# Altium footprint library EPU.PcbLib: 8 footprints
Each footprint in its own frame and in the unit in brackets; x right, y up, seen from the top. Pads: shape width x height; smd on the part's side, far side on the other; paste and mask are expansions set on the pad; w line width, h text height; cw(c..) or ccw(c..) is an arc to the next point about the centre after c.
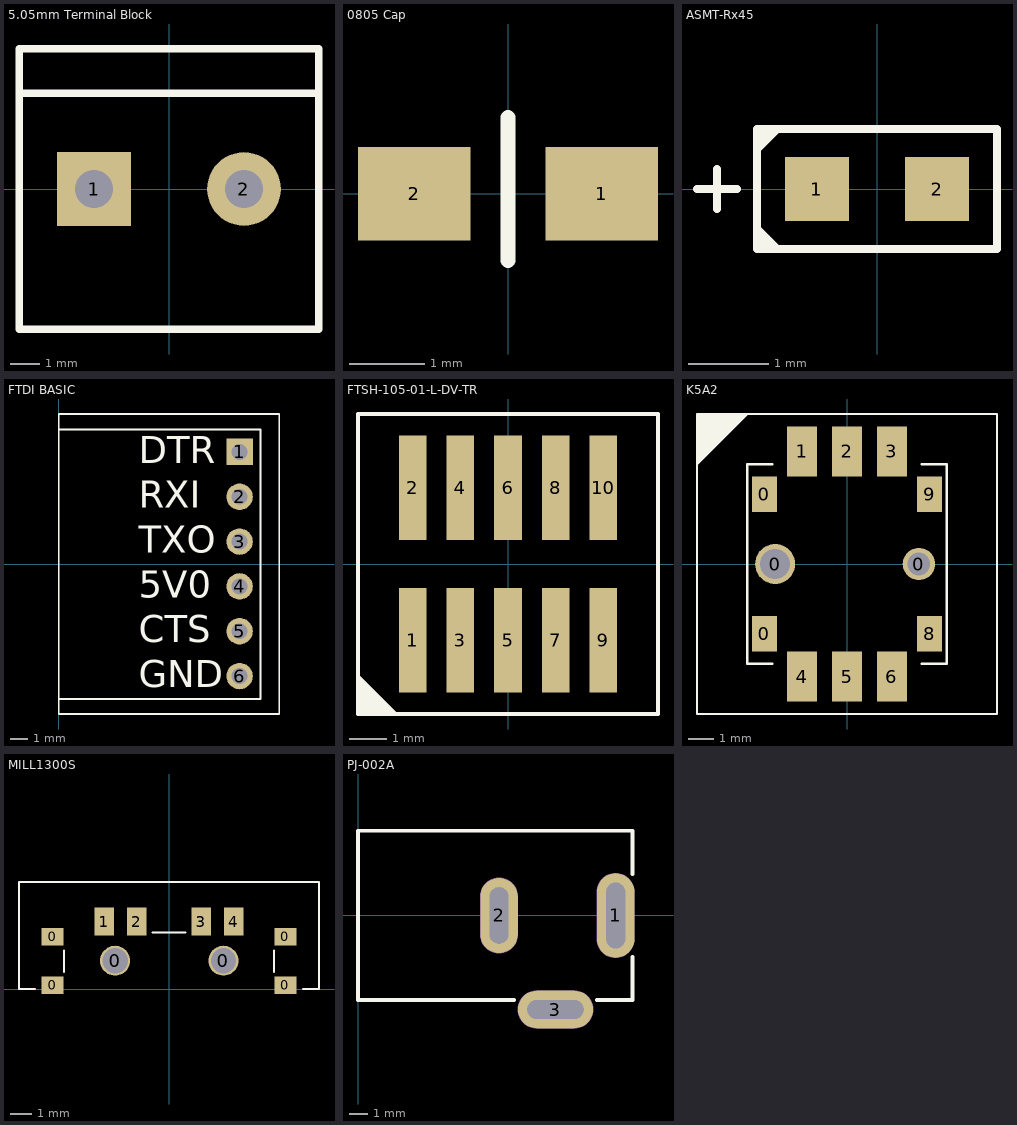
[diagram p0: the footprints below, top view; thin cyan lines are the x and y axes]

## 5.05mm Terminal Block [mm]
pads (2):
  rect 2.5x2.5 hole 1.3: 1(-2.54,0)
  round 2.5 hole 1.3: 2(2.54,0)
Top Overlay:
  lines w0.254: -5.08,3.25 5.08,3.25 ; -5.08,-4.75 -5.08,0 -5.08,4.75 5.08,4.75 5.08,0 5.08,-4.75 -5.08,-4.75

## 0805 Cap [mm] "0805 Capacitor"
pads (2):
  rect 1.5x1.25 smd: 1(1.25,0) 2(-1.25,0)
Top Overlay:
  lines w0.2: 0,-0.889 0,1.016
3D body: height 0.9, standoff 0, extent -1,-0.625 1.1,0.625

## ASMT-Rx45 [mm]
pads (2):
  rect 0.8x0.8 smd: 1(-0.75,0) 2(0.75,0)
Top Overlay:
  region: -1.25,0.75 -1.5,0.75 -1.5,0.5
  region: -1.5,-0.5 -1.25,-0.75 -1.5,-0.75
  lines w0.1: -2.25,0 -1.75,0 ; -2,-0.25 -2,0.25 ; -1.5,-0.5 -1.25,-0.75 ; -1.5,0.5 -1.25,0.75 ; -1.5,-0.75 1.5,-0.75 1.5,0.75 -1.5,0.75 -1.5,-0.75
3D body: height 0.1, standoff 0, extent -0.8,-0.4 0.8,0.4
3D body: height 0.45, standoff 0.1, extent -0.55,-0.4 0.55,0.4

## FTDI BASIC [mm]
pads (6):
  rect 1.5x1.5 hole 0.9: 1(10.25,6.35)
  round 1.5 hole 0.9: 2(10.25,3.81) 3(10.25,1.27) 4(10.25,-1.27) 5(10.25,-3.81) 6(10.25,-6.35)
Top Overlay:
  lines w0.1: 11.43,-7.65 0,-7.65 ; 11.43,-7.62 11.43,7.62 0,7.62 ; 0,-7.65 0,-8.5 12.5,-8.5 12.5,8.5 0,8.5 0,7.62 ; 0,-7.65 0,7.62
  text "TXO" at 4.535,0.635 h1.52
  text "RXI" at 4.535,3.175 h1.52
  text "DTR" at 4.535,5.715 h1.52
  text "GND" at 4.535,-6.985 h1.52
  text "CTS" at 4.535,-4.445 h1.52
  text "5V0" at 4.535,-1.905 h1.52
3D body: height 2.51, standoff -3.02, extent -0.024,-7.62 10.555,7.62

## FTSH-105-01-L-DV-TR [mil] "http://www.samtec.com/ftppub/cpdf/FTSHMKT1.PDF"
pads (10):
  rect 29x110 smd: 1(-100,-80) 2(-100,80) 3(-50,-80) 4(-50,80) 5(0,-80) 6(0,80) 7(50,-80) 8(50,80) 9(100,-80) 10(100,80)
Top Overlay:
  region: -157.48,-118.11 -118.11,-157.48 -157.48,-157.48
  lines w3.94: -157.48,-118.11 -118.11,-157.48 ; -157.48,-157.48 157.48,-157.48 157.48,157.48 -157.48,157.48 -157.48,-157.48
3D body: height 234.5, standoff -0.5, extent -125,-115 125,115

## K5A2 [mm]
pads (12):
  rect 1x1.42 smd: 0(-3.3,-2.8) 0(-3.3,2.8) 8(3.3,-2.8) 9(3.3,2.8)
  round 1.6 hole 1.2: 0(-2.875,0)
  round 1.3 hole 0.9: 0(2.875,0)
  rect 1.2x2 smd: 1(-1.8,4.5) 2(0,4.5) 3(1.8,4.5) 4(-1.8,-4.5) 5(0,-4.5) 6(1.8,-4.5)
Top Overlay:
  region: -4,6 -6,6 -6,4
  lines w0.1: -6,4 -4,6 ; -3,-4 -4,-4 -4,4 -3,4 ; 3,-4 4,-4 4,4 3,4 ; -6,-6 -6,6 6,6 6,-6 -6,-6
3D body: height 4.55, standoff 0, extent -3.175,-3.194 3.2,3.194
3D body: height 3.55, standoff 0, extent -4,-4 4,4
3D body: height 3.2, standoff 0, extent -4.125,-3 4.125,3

## MILL1300S [mil]
pads (10):
  rect 40x32 smd: 0(-214,7) 0(-214,96) 0(214,7) 0(214,96)
  round 55.12 hole 46.46 paste+0 mask+0: 0(-99,52) 0(100,52)
  rect 36x52 smd: 1(-119,124) 2(-59,124) 3(59,124) 4(119,124)
Top Overlay:
  lines w3.94: -246.06,0 -275.59,0 -275.59,196.85 275.59,196.85 275.59,0 246.06,0 ; -193,31.5 -193,70.87 ; -30,104 30,104 ; 193,31.5 193,70.87
3D body: height 55.91, standoff -20.08, extent -212.99,-60.24 212.99,139.37

## PJ-002A [mm] "DC Power Jack, 2.5mm, KLD Series, PCB Mount"
pads (3):
  oval 2x4.5 hole 1 slot 3.5 at 90 deg: 1(13.7,0)
  oval 2x4 hole 1 slot 3 at 90 deg: 2(7.5,0)
  oval 4x2 hole 1 slot 3 at 0 deg: 3(10.5,-5)
Top Overlay:
  lines w0.2: 8.3,-4.5 0,-4.5 0,4.5 14.6,4.5 14.6,2.2 ; 12.7,-4.5 14.6,-4.5 14.6,-2.2
Mechanical 1:
  lines w1: 7.5,-1 7.5,1 ; 9.5,-5 11.5,-5 ; 13.7,-1.25 13.7,1.25
  text "Alert PCB fab to slot details" at 0.286,6.066 h0.3
  text "Assign keep-out area to slot" at 0.286,6.566 h0.3
  text "Mech 1 - Slot cut-out" at 0.286,5.566 h0.3
  text "Mech 2 - Clearance, move to internal plane if present" at 0.286,5.066 h0.3
Mechanical 2:
  lines w2.016: 7.5,-1 7.5,1 ; 9.5,-5 11.5,-5 ; 13.7,-1.25 13.7,1.25